# Altium schematic symbol library SCH - POWER - SWITCHMODE - TI TPS51200-Q1DRC.SchLib: 1 symbol
Pins are listed as number, name and electrical type; pins without a type are passive.

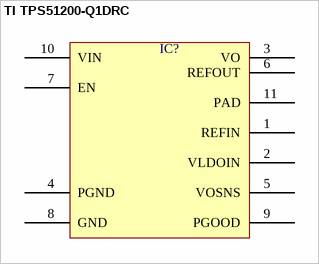
[diagram p0: symbol TI TPS51200-Q1DRC]

## TI TPS51200-Q1DRC
designator IC?  (value not drawn)
pins: 1 REFIN, 2 VLDOIN, 3 VO, 4 PGND, 5 VOSNS, 6 REFOUT, 7 EN, 8 GND, 9 PGOOD, 10 VIN, 11 PAD